# Altium schematic symbol library NX1029XH.SchLib: 1 symbol
Pins are listed as number, name and electrical type; pins without a type are passive.

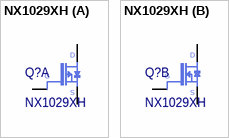
[diagram p0: symbol NX1029XH]

## NX1029XH
designator Q?
part A pins: 3 D, 4 S, 5 G
part B pins: 1 S, 2 G, 6 D